# EAGLE library part 1-215297-5 (library 1-215297-5)
Check prices <https://pricing.snapeda.com/parts/1-215297-5/TE%20Connectivity/view-part?ref=eda>
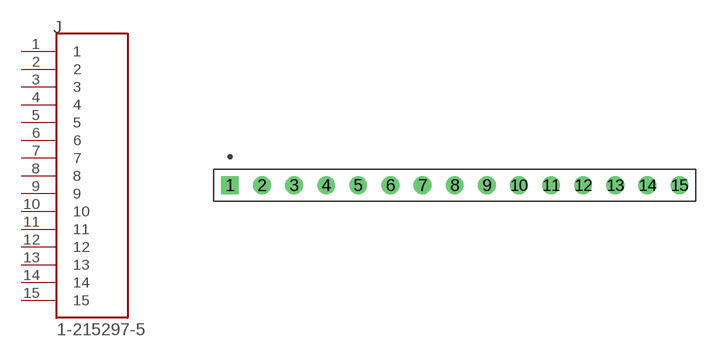
[diagram p0: symbol with the pads of TE_1-215297-5; footprint TE_1-215297-5]

Designator prefix J

## 1-215297-5 (AVAILABILITY: Warning; CENTERLINE_PITCH: 2.54 mm[.1 in]; COMMENT: 1-215297-5; DESCRIPTION: Conn Socket Strip RCP 15 POS 2.54mm Solder ST Thru-Hole Automotive Carton; MF: TE Connectivity; MP: 1-215297-5; NUMBER_OF_POSITIONS: 15; PACKAGE: None; PRICE: None; PRODUCT_TYPE: Connector; PURCHASE-URL: https://pricing.snapeda.com/search/part/1-215297-5/?ref=eda)  [TE_1-215297-5]
1  1  pas
2  2  pas
3  3  pas
4  4  pas
5  5  pas
6  6  pas
7  7  pas
8  8  pas
9  9  pas
10  10  pas
11  11  pas
12  12  pas
13  13  pas
14  14  pas
15  15  pas

## Footprint TE_1-215297-5 (pad centres in mm)
drill 0.9 square: 1 -17.78,0
drill 0.9: 2 -15.24,0; 3 -12.7,0; 4 -10.16,0; 5 -7.62,0; 6 -5.08,0; 7 -2.54,0; 8 0,0; 9 2.54,0; 10 5.08,0; 11 7.62,0; 12 10.16,0; 13 12.7,0; 14 15.24,0; 15 17.78,0